# Altium schematic symbol library Term,Header,10x2 Pin,Top,2.54mm.Schlib: 1 symbol
Pins are listed as number, name and electrical type; pins without a type are passive.

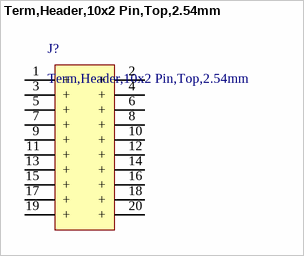
[diagram p0: symbol Term,Header,10x2 Pin,Top,2.54mm]

## Term,Header,10x2 Pin,Top,2.54mm
designator J?
CONN HEADER VERT 20POS 2.54MM
pins: 1 +, 2 +, 3 +, 4 +, 5 +, 6 +, 7 +, 8 +, 9 +, 10 +, 11 +, 12 +, 13 +, 14 +, 15 +, 16 +, 17 +, 18 +, 19 +, 20 +